# Altium schematic symbol library MIC29502.SchLib: 1 symbol
Pins are listed as number, name and electrical type; pins without a type are passive.

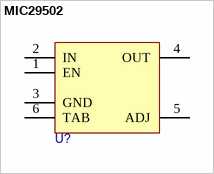
[diagram p0: symbol MIC29502]

## MIC29502
designator U?
pins: 1 EN, 2 IN, 3 GND, 4 OUT, 5 ADJ, 6 TAB